# Altium schematic symbol library SCH - ISOLATOR - TI ISO6540-Q1.SchLib: 1 symbol
Pins are listed as number, name and electrical type; pins without a type are passive.

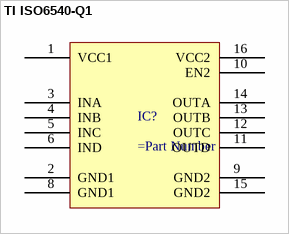
[diagram p0: symbol TI ISO6540-Q1]

## TI ISO6540-Q1
designator IC?
pins: 1 VCC1, 2 GND1, 3 INA, 4 INB, 5 INC, 6 IND, 8 GND1, 9 GND2, 10 EN2, 11 OUTD, 12 OUTC, 13 OUTB, 14 OUTA, 15 GND2, 16 VCC2